# EAGLE library part OSSC_OVERLAY_DIY_OVERLY_W_MCLK (library OSSC_HDMI_Audio)
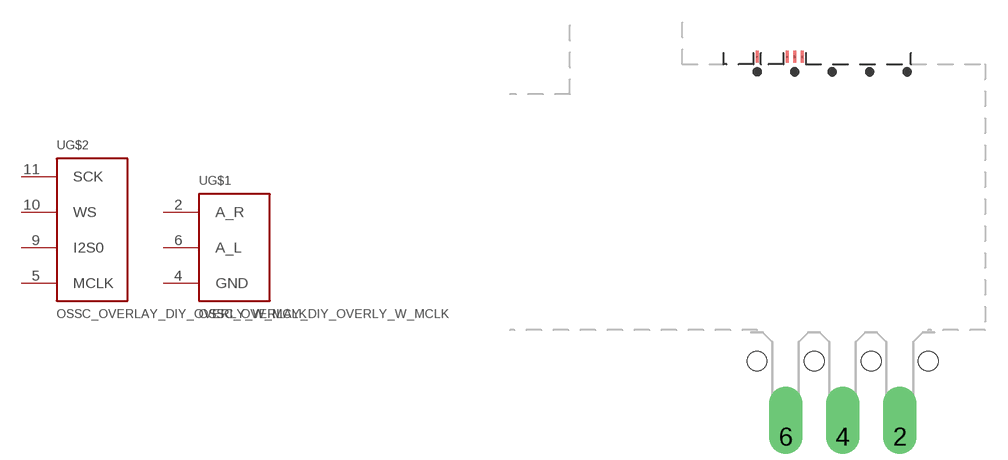
[diagram p4: symbol with the pads of OSSC_OVERLAY_V1.3_W_MCLK; footprint OSSC_OVERLAY_V1.3_W_MCLK]

Designator prefix -; gates G$1=SCART_AUDIO_GND G$2=IT6613E_I2S0

## OSSC_OVERLAY_DIY_OVERLY_W_MCLK  [OSSC_OVERLAY_V1.3_W_MCLK]
2  G$1:A_R
4  G$1:GND
5  G$2:MCLK
6  G$1:A_L
9  G$2:I2S0
10  G$2:WS
11  G$2:SCK

## Footprint OSSC_OVERLAY_V1.3_W_MCLK (pad centres in mm)
drill 1.5 pad 1.778 offset: 2 3.81,0; 4 0,0; 6 -3.81,0
smd 0.2 x 0.8: 5 -5.7,25.4; 9 -3.7,25.4; 10 -3.2,25.4; 11 -2.7,25.4
hole 1.321 at -1.905,5.08
hole 1.321 at 1.905,5.08
hole 1.321 at 5.715,5.08
hole 1.321 at -5.715,5.08